# Altium footprint library gps_project_pcb_library.PcbLib: 41 footprints (part 3 of 3)
Each footprint in its own frame and in the unit in brackets; x right, y up, seen from the top. Pads: shape width x height; smd on the part's side, far side on the other; paste and mask are expansions set on the pad; w line width, h text height; cw(c..) or ccw(c..) is an arc to the next point about the centre after c.
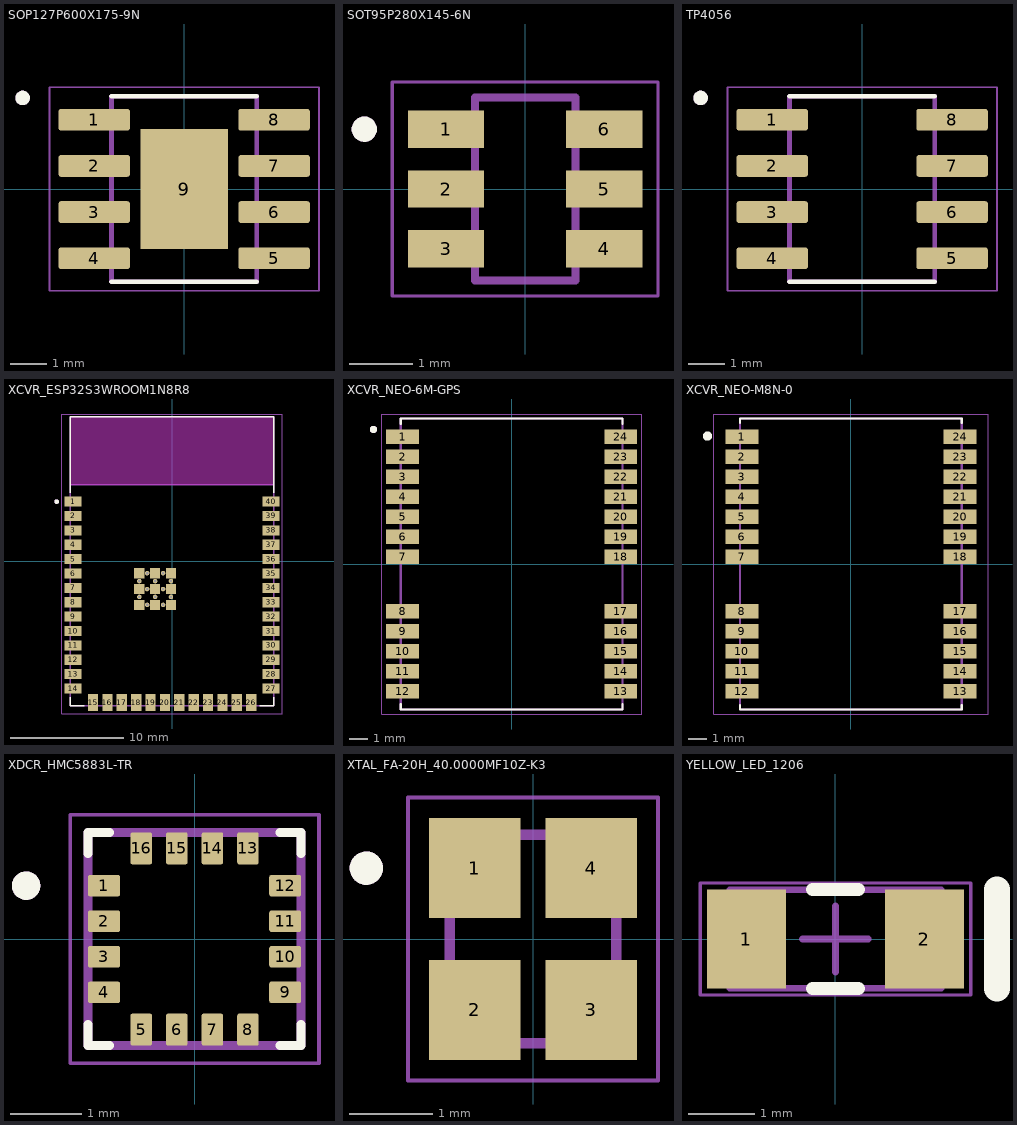
[diagram p2: the footprints below, top view; thin cyan lines are the x and y axes]

## SOP127P600X175-9N [mm]
height 1.75
pads (9):
  rrect25% 1.97x0.6 smd: 1(-2.475,1.905) 2(-2.475,0.635) 3(-2.475,-0.635) 4(-2.475,-1.905) 5(2.475,-1.905) 6(2.475,-0.635) 7(2.475,0.635) 8(2.475,1.905)
  rect 2.413x3.302 smd paste-3: 9(0,0)
Top Overlay:
  circle w0.2: c-4.445,2.505 r0.1
  lines w0.127: -2,-2.55 2,-2.55 ; -2,2.55 2,2.55
Top Paste:
  region: 0.645,-0.82 -0.645,-0.82 -0.645,0.82 0.645,0.82
Mechanical 13:
  circle w0.2: c-4.445,2.505 r0.1
  lines w0.127: -2,-2.55 -2,2.55 2,2.55 2,-2.55 -2,-2.55
Mechanical 15:
  lines w0.05: -3.71,-2.8 -3.71,2.8 3.71,2.8 3.71,-2.8 -3.71,-2.8
3D body "step_temp.STEP": height 1.75, standoff 0, extent -3,-2.45 3,2.45

## SOT95P280X145-6N [mm]
height 1.45
pads (6):
  rect 1.21x0.59 smd: 1(-1.255,0.95) 2(-1.255,0) 3(-1.255,-0.95) 4(1.255,-0.95) 5(1.255,0) 6(1.255,0.95)
Top Overlay:
  circle w0.2: c-2.555,0.95 r0.1
Mechanical 13:
  circle w0.2: c-2.555,0.95 r0.1
  lines w0.127: -0.8,-1.45 0.8,-1.45 0.8,1.45 -0.8,1.45 -0.8,-1.45
Mechanical 15:
  lines w0.05: -2.11,-1.7 -2.11,1.7 2.11,1.7 2.11,-1.7 -2.11,-1.7
3D body "step_temp.STEP": height 1.45, standoff 0, extent -1.4,-1.45 1.4,1.45

## TP4056 [mm]
height 1.75
pads (8):
  rrect25% 1.97x0.6 smd: 1(-2.475,1.905) 2(-2.475,0.635) 3(-2.475,-0.635) 4(-2.475,-1.905) 5(2.475,-1.905) 6(2.475,-0.635) 7(2.475,0.635) 8(2.475,1.905)
Top Overlay:
  circle w0.2: c-4.445,2.505 r0.1
  lines w0.127: -2,-2.55 2,-2.55 ; -2,2.55 2,2.55
Top Paste:
  region: 0.645,-0.82 -0.645,-0.82 -0.645,0.82 0.645,0.82
Mechanical 13:
  circle w0.2: c-4.445,2.505 r0.1
  lines w0.127: -2,-2.55 2,-2.55 2,2.55 -2,2.55 -2,-2.55
Mechanical 15:
  lines w0.05: -3.71,-2.8 3.71,-2.8 3.71,2.8 -3.71,2.8 -3.71,-2.8
3D body "step_temp.STEP": height 1.75, standoff 0, extent -3,-2.45 3,2.45

## XCVR_ESP32S3WROOM1N8R8 [mm]
pads (61):
  rect 1.5x0.9 smd: 1(-8.75,5.26) 2(-8.75,3.99) 3(-8.75,2.72) 4(-8.75,1.45) 5(-8.75,0.18) 6(-8.75,-1.09) 7(-8.75,-2.36) 8(-8.75,-3.63) 9(-8.75,-4.9) 10(-8.75,-6.17) 11(-8.75,-7.44) 12(-8.75,-8.71) 13(-8.75,-9.98) 14(-8.75,-11.25) 27(8.75,-11.25) 28(8.75,-9.98) 29(8.75,-8.71) 30(8.75,-7.44) 31(8.75,-6.17) 32(8.75,-4.9) 33(8.75,-3.63) 34(8.75,-2.36) 35(8.75,-1.09) 36(8.75,0.18) 37(8.75,1.45) 38(8.75,2.72) 39(8.75,3.99) 40(8.75,5.26)
  rect 0.9x1.5 smd: 15(-6.985,-12.5) 16(-5.715,-12.5) 17(-4.445,-12.5) 18(-3.175,-12.5) 19(-1.905,-12.5) 20(-0.635,-12.5) 21(0.635,-12.5) 22(1.905,-12.5) 23(3.175,-12.5) 24(4.445,-12.5) 25(5.715,-12.5) 26(6.985,-12.5)
  rect 0.9x0.9 smd: 41_1(-1.5,-2.46) 41_2(-2.9,-2.46) 41_3(-0.1,-2.46) 41_4(-2.9,-3.86) 41_5(-1.5,-3.86) 41_6(-0.1,-3.86) 41_7(-2.9,-1.06) 41_8(-1.5,-1.06) 41_9(-0.1,-1.06)
  round 0.4 hole 0.2 mask+0: 41_10(-1.5,-1.76) 41_11(-2.9,-1.76) 41_12(-0.1,-1.76) 41_13(-2.9,-3.16) 41_14(-1.5,-3.16) 41_15(-0.1,-3.16) 41_16(-2.2,-1.06) 41_17(-0.8,-1.06) 41_18(-2.2,-2.46) 41_19(-0.8,-2.46) 41_20(-2.2,-3.86) 41_21(-0.8,-3.86)
Top Overlay:
  circle w0.2: c-10.2,5.26 r0.1
  lines w0.127: -9,-12.02 -9,-12.75 -7.755,-12.75 ; -9,6.03 -9,12.75 9,12.75 9,6.03 ; 7.755,-12.75 9,-12.75 9,-12.02
Keep-Out Layer:
  region: 9,6.75 -9,6.75 -9,12.75 9,12.75
  region: 9,6.75 -9,6.75 -9,12.75 9,12.75
Mechanical 13:
  circle w0.2: c-10.2,5.26 r0.1
  lines w0.127: -9,6.75 9,6.75 ; -9,6.75 -9,12.75 9,12.75 9,6.75 ; -9,6.75 -9,-12.75 9,-12.75 9,6.75
  text "ANTENNA" at -4.5,9.5 h1.27
Mechanical 15:
  lines w0.05: -9.75,-13.5 9.75,-13.5 9.75,13 -9.75,13 -9.75,-13.5
3D body "ESP32S3WROOM1N8R8.STEP": height 3.25, standoff 0, extent -8.988,-12.768 9.012,12.732

## XCVR_NEO-6M-GPS [mm]
pads (24):
  rect 1.8x0.8 smd paste-2: 1(-6,7) 2(-6,5.9) 3(-6,4.8) 4(-6,3.7) 5(-6,2.6) 6(-6,1.5) 7(-6,0.4) 8(-6,-2.6) 9(-6,-3.7) 10(-6,-4.8) 11(-6,-5.9) 12(-6,-7) 13(6,-7) 14(6,-5.9) 15(6,-4.8) 16(6,-3.7) 17(6,-2.6) 18(6,0.4) 19(6,1.5) 20(6,2.6) 21(6,3.7) 22(6,4.8) 23(6,5.9) 24(6,7)
Top Overlay:
  circle w0.2: c-7.6,7.4 r0.1
  lines w0.127: -6.1,-7.72 -6.1,-8 6.1,-8 6.1,-7.72 ; -6.1,7.72 -6.1,8 6.1,8 6.1,7.72
Top Paste:
  drawing of 24 lines, arcs and shapes, not listed
Mechanical 13:
  circle w0.2: c-7.6,7.4 r0.1
  lines w0.127: -6.1,-8 -6.1,8 6.1,8 6.1,-8 -6.1,-8
Mechanical 15:
  lines w0.05: -7.15,-8.25 -7.15,8.25 7.15,8.25 7.15,-8.25 -7.15,-8.25
3D body "step_temp.STEP": height 2.6, standoff 0, extent -6.1,-8 6.1,8

## XCVR_NEO-M8N-0 [mm]
pads (24):
  rect 1.8x0.8 smd paste-2: 1(-6,7) 2(-6,5.9) 3(-6,4.8) 4(-6,3.7) 5(-6,2.6) 6(-6,1.5) 7(-6,0.4) 8(-6,-2.6) 9(-6,-3.7) 10(-6,-4.8) 11(-6,-5.9) 12(-6,-7) 13(6,-7) 14(6,-5.9) 15(6,-4.8) 16(6,-3.7) 17(6,-2.6) 18(6,0.4) 19(6,1.5) 20(6,2.6) 21(6,3.7) 22(6,4.8) 23(6,5.9) 24(6,7)
Top Overlay:
  circle w0.3: c-7.889,7.036 r0.1
  lines w0.127: -6.1,-7.75 -6.1,-8 6.1,-8 6.1,-7.75 ; -6.1,7.75 -6.1,8 6.1,8 6.1,7.75
Top Paste:
  drawing of 48 lines, arcs and shapes, not listed
Mechanical 13:
  lines w0.127: -6.1,-8 -6.1,8 6.1,8 6.1,-8 -6.1,-8
Mechanical 15:
  lines w0.05: -7.55,-8.25 -7.55,8.25 7.55,8.25 7.55,-8.25 -7.55,-8.25
3D body "step_temp.STEP": height 2.6, standoff 0, extent -6.1,-8 6.1,8

## XDCR_HMC5883L-TR [mm]
pads (16):
  rrect17% 0.45x0.3 smd: 1(-1.275,0.75) 2(-1.275,0.25) 3(-1.275,-0.25) 4(-1.275,-0.75) 9(1.275,-0.75) 10(1.275,-0.25) 11(1.275,0.25) 12(1.275,0.75)
  rrect17% 0.3x0.45 smd: 5(-0.75,-1.275) 6(-0.25,-1.275) 7(0.25,-1.275) 8(0.75,-1.275) 13(0.75,1.275) 14(0.25,1.275) 15(-0.25,1.275) 16(-0.75,1.275)
Top Overlay:
  circle w0.2: c-2.37,0.75 r0.1
  lines w0.127: -1.5,-1.2 -1.5,-1.5 -1.2,-1.5 ; -1.5,1.2 -1.5,1.5 -1.2,1.5 ; 1.2,-1.5 1.5,-1.5 1.5,-1.2 ; 1.2,1.5 1.5,1.5 1.5,1.2
Mechanical 13:
  circle w0.2: c-2.37,0.75 r0.1
  lines w0.127: -1.5,-1.5 1.5,-1.5 1.5,1.5 -1.5,1.5 -1.5,-1.5
Mechanical 15:
  lines w0.05: -1.75,-1.75 1.75,-1.75 1.75,1.75 -1.75,1.75 -1.75,-1.75
3D body "step_temp.STEP": height 0.9, standoff 0, extent -1.5,-1.5 1.5,1.5

## XTAL_FA-20H_40.0000MF10Z-K3 [mm]
height 0.55
pads (4):
  rect 1.1x1.2 smd: 1(-0.7,0.85) 2(-0.7,-0.85) 3(0.7,-0.85) 4(0.7,0.85)
Top Overlay:
  circle w0.2: c-2,0.85 r0.1
Mechanical 13:
  circle w0.2: c-2,0.85 r0.1
  lines w0.127: -1,-1.25 -1,1.25 1,1.25 1,-1.25 -1,-1.25
Mechanical 15:
  lines w0.05: -1.5,-1.7 -1.5,1.7 1.5,1.7 1.5,-1.7 -1.5,-1.7
3D body "step_temp.STEP": height 0.55, standoff 0, extent -1,-1.25 1,1.25

## YELLOW_LED_1206 [mm] "SMD, 2-Leads, Body 3.2x1.5mm"
height 1.25
pads (2):
  rect 1.2x1.5 smd: 1(-1.35,0) 2(1.35,0)
Top Overlay:
  lines w0.2: -0.35,-0.75 0.35,-0.75 ; -0.35,0.75 0.35,0.75
  lines w0.4: 2.45,-0.75 2.45,0.75
Mechanical 13:
  lines w0.1: -1.6,-0.75 1.6,-0.75 1.6,0.75 -1.6,0.75 -1.6,-0.75
Mechanical 15:
  lines w0.05: -2.05,-0.85 -2.05,0.85 2.05,0.85 2.05,-0.85 -2.05,-0.85
  lines w0.1: -0.5,0 0.5,0 ; 0,-0.5 0,0.5
3D body: height 1.25, standoff 0, extent -1.6,-0.75 1.6,0.75